# EAGLE library part TPS82140 (library greg-IC)
TPS82140 2A Step-Down Converter The TPS82140 is a 17-V input 2-A step-down converter MicroSiP™ power module optimized for small solution size and high efficiency. The module integrates a synchronous step-down converter and an inductor to simplify design, reduce external components and save PCB area. The low profile and compact solution is suitable for automated assembly by standard surface mount equipment. To maximize efficiency, the converter operates in PWM mode with a nominal switching frequency of 2 MHz and automatically enters Power Save Mode operation at light load currents. In Power Save Mode, the device operates with typically 20-µA quiescent current. Using the DCS-Control™ topology, the device achieves excellent load transient performance and accurate output voltage regulation. 3.0-mm × 2.8-mm × 1.5-mm MicroSiP™ Package 3.0-V to 17-V Input Range 2-A Continuous Output Current DCS-Control™ Topology Power Save Mode for Light Load Efficiency 20-µA Operating Quiescent Current 0.9-V to 6-V Adjustable Output Voltage 100% Duty Cycle for Lowest Dropout Power Good Output Programmable Soft Startup with Tracking Thermal Shutdown Protection –40°C to 125°C Operating Temperature Range Datasheet <http://www.ti.com/lit/ds/symlink/tps82140.pdf>
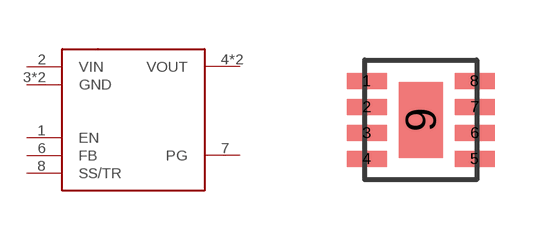
[diagram p10: symbol with the pads of MICROSIL-8; footprint MICROSIL-8]

Designator prefix -

## TPS82140  [MICROSIL-8]
1  EN  in
2  VIN  pwr
3  GND  pwr
4  VOUT  pwr
5  VOUT  pwr
6  FB  in
7  PG  out
8  SS/TR  in
9  GND  pwr

## Footprint MICROSIL-8 (pad centres in mm)
smd 1 x 0.4: 1 -1.35,0.975; 2 -1.35,0.325; 3 -1.35,-0.325; 4 -1.35,-0.975; 5 1.35,-0.975; 6 1.35,-0.325; 7 1.35,0.325; 8 1.35,0.975
smd 1.1 x 1.9: 9 0,0